# EAGLE library part LM33794 (library newchips)
Motorola Electric Field Imaging Device
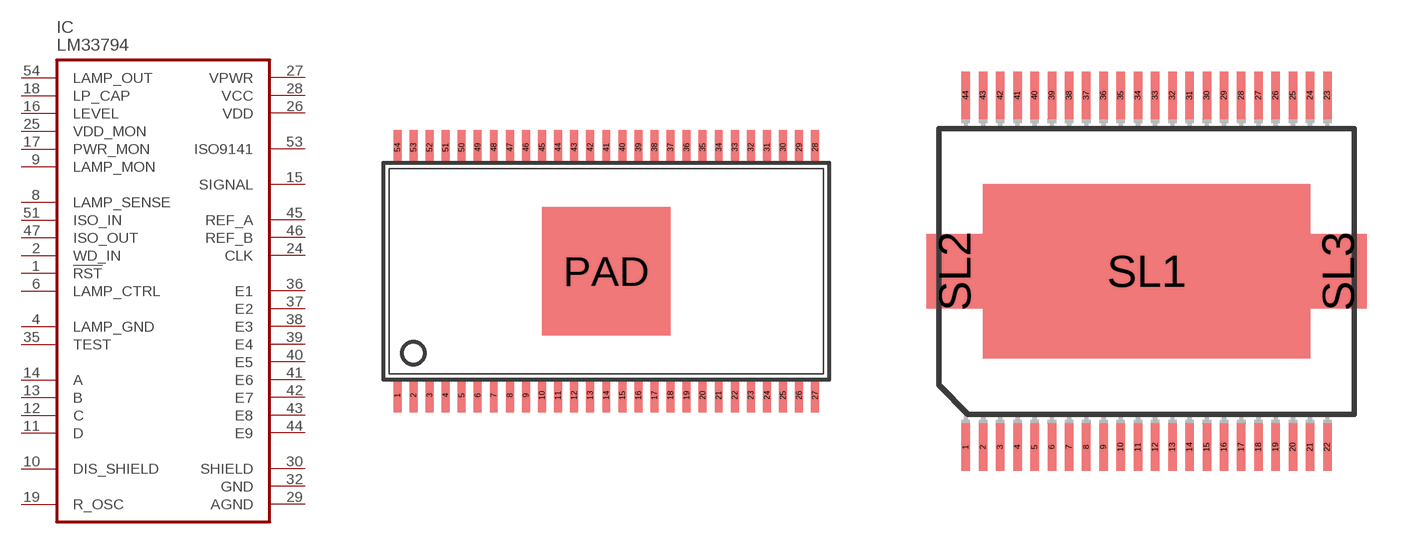
[diagram p28: symbol with the pads of SO54W-PAD; footprints SO54W-PAD, HSOP44_0.65MM]

Designator prefix IC

## LM33794DWB  [SO54W-PAD]
1  !RST  out
2  WD_IN  in
4  LAMP_GND  pwr
6  LAMP_CTRL  in
8  LAMP_SENSE  in
9  LAMP_MON  out
10  DIS_SHIELD  in
11  D  in
12  C  in
13  B  in
14  A  in
15  SIGNAL  out
16  LEVEL  out
17  PWR_MON  out
18  LP_CAP  out
19  R_OSC  pas
24  CLK  out
25  VDD_MON  out
26  VDD  pwr
27  VPWR  pwr
28  VCC  pwr
29  AGND  pwr
30  SHIELD  pwr
32  GND  pwr
35  TEST  in
36  E1  in
37  E2  in
38  E3  in
39  E4  in
40  E5  in
41  E6  in
42  E7  in
43  E8  in
44  E9  in
45  REF_A  pas
46  REF_B  pas
47  ISO_OUT  out
51  ISO_IN  in
53  ISO9141
54  LAMP_OUT  out

## LM33794DH  [HSOP44_0.65MM]
1  VCC  pwr
3  AGND  pwr
4  SHIELD  pwr
6  GND  pwr
7  TEST  in
8  E1  in
9  E2  in
10  E3  in
11  E4  in
12  E5  in
13  E6  in
14  E7  in
15  E8  in
16  E9  in
17  REF_A  pas
18  REF_B  pas
19  ISO_OUT  out
20  ISO_IN  in
21  ISO9141
22  LAMP_OUT  out
23  !RST  out
24  WD_IN  in
25  LAMP_GND  pwr
26  LAMP_CTRL  in
28  LAMP_SENSE  in
29  LAMP_MON  out
30  DIS_SHIELD  in
31  D  in
32  C  in
33  B  in
34  A  in
35  SIGNAL  out
36  LEVEL  out
37  PWR_MON  out
38  LP_CAP  out
39  R_OSC  pas
40  CLK  out
41  VDD_MON  out
42  VDD  pwr
44  VPWR  pwr

## Footprint SO54W-PAD (pad centres in mm)
SMALL OUTLINE INTEGRATED CIRCUIT wide body 7.5 mm with pad
smd 0.32 x 1.4: 1 -8.45,-5.018; 2 -7.8,-5.018; 3 -7.15,-5.018; 4 -6.5,-5.018; 5 -5.85,-5.018; 6 -5.2,-5.018; 7 -4.55,-5.018; 8 -3.9,-5.018; 9 -3.25,-5.018; 10 -2.6,-5.018; 11 -1.95,-5.018; 12 -1.3,-5.018; 13 -0.65,-5.018; 14 0,-5.018; 15 0.65,-5.018; 16 1.3,-5.018; 17 1.95,-5.018; 18 2.6,-5.018; 19 3.25,-5.018; 20 3.9,-5.018; 21 4.55,-5.018; 22 5.2,-5.018; 23 5.85,-5.018; 24 6.5,-5.018; 25 7.15,-5.018; 26 7.8,-5.018; 27 8.45,-5.018; 28 8.45,5.018; 29 7.8,5.018; 30 7.15,5.018; 31 6.5,5.018; 32 5.85,5.018; 33 5.2,5.018; 34 4.55,5.018; 35 3.9,5.018; 36 3.25,5.018; 37 2.6,5.018; 38 1.95,5.018; 39 1.3,5.018; 40 0.65,5.018; 41 0,5.018; 42 -0.65,5.018; 43 -1.3,5.018; 44 -1.95,5.018; 45 -2.6,5.018; 46 -3.25,5.018; 47 -3.9,5.018; 48 -4.55,5.018; 49 -5.2,5.018; 50 -5.85,5.018; 51 -6.5,5.018; 52 -7.15,5.018; 53 -7.8,5.018; 54 -8.45,5.018
smd 5.2 x 5.2: PAD 0,0

## Footprint HSOP44_0.65MM (pad centres in mm)
Heatsink Small Outline Package (HSOP) Source: www.motorola.com/... AN2388.pdf Modified for MC33794, 44 pins 0.65mm spacing
smd 0.32 x 1.8: 1 -6.825,-6.643; 2 -6.175,-6.643; 3 -5.525,-6.643; 4 -4.875,-6.643; 5 -4.225,-6.643; 6 -3.575,-6.643; 7 -2.925,-6.643; 8 -2.275,-6.643; 9 -1.625,-6.643; 10 -0.975,-6.643; 11 -0.325,-6.643; 12 0.325,-6.643; 13 0.975,-6.643; 14 1.625,-6.643; 15 2.275,-6.643; 16 2.925,-6.643; 17 3.575,-6.643; 18 4.225,-6.643; 19 4.875,-6.643; 20 5.525,-6.643; 21 6.175,-6.643; 22 6.825,-6.643; 23 6.825,6.643; 24 6.175,6.643; 25 5.525,6.643; 26 4.875,6.643; 27 4.225,6.643; 28 3.575,6.643; 29 2.925,6.643; 30 2.275,6.643; 31 1.625,6.643; 32 0.975,6.643; 33 0.325,6.643; 34 -0.325,6.643; 35 -0.975,6.643; 36 -1.625,6.643; 37 -2.275,6.643; 38 -2.925,6.643; 39 -3.575,6.643; 40 -4.225,6.643; 41 -4.875,6.643; 42 -5.525,6.643; 43 -6.175,6.643; 44 -6.825,6.643
smd 12.35 x 6.6: SL1 0,0
smd 2.15 x 2.8: SL2 -7.239,0; SL3 7.239,0